# Altium integrated library Infineon_Power_Supply_Voltage_Regulator.IntLib: 346 symbols (part 15 of 16)
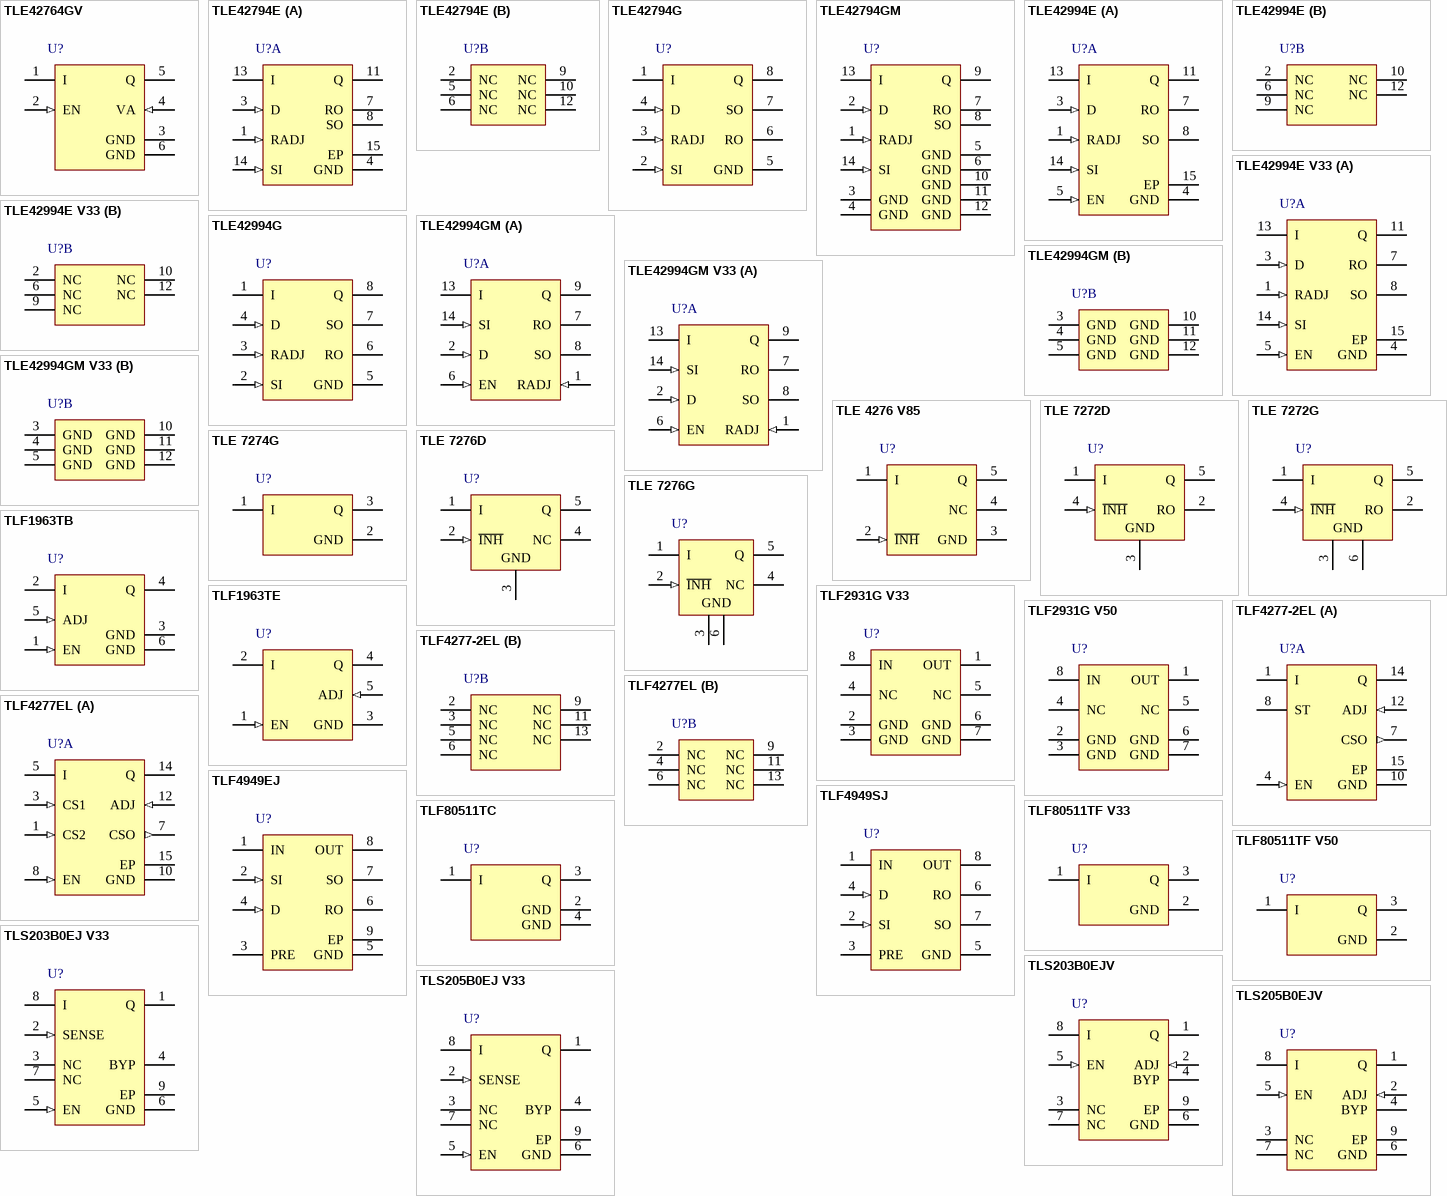
[diagram p23: symbols TLE42764GV to TLS205B0EJV]

## TLE42794E
designator U?
Low Drop Fixed Voltage Regulator, 5.5 to 45 V Supply, 5 V Output, -40 to 150 degC, PG-SSOP-14, Reel, Green; Manufacturer: Infineon; PartNumber: TLE42794E; Accuracy: 2 %; Dropout Voltage: 250 mV; Green: TRUE; Max. Output Current: 150 mA; Output Voltage: 5V; Regulator Type: single output; Typical Quiescent Current: 150 uA; DatasheetVersion: Rev. 1.1; PackageVersion: Oct-08; PackageReference: PG-SSOP-14; PackageDescription: 14-Pin Plastic (Green) Shrink Small Outline Package, 4.9 x 3.9 mm Body, 0.65 mm Pitch; Supplier 1: Mouser; Supplier Part Number 1: 726-TLE42794E; Supplier 2: Digi-Key; Supplier Part Number 2: TLE42794E-ND; Halogen-free: TRUE; Operating Range: 5.5 to 45 V; Packing: Reel; Mounting Technology: Surface Mount; ComponentLink1Description: Manufacturer URL; ComponentLink1URL: http://www.infineon.com/; ComponentLink2Description: Datasheet; ComponentLink2URL: http://www.infineon.com/dgdl/TLE42794_DS_11%5B1%5D.pdf?folderId=db3a30431ff988150120802bce1d257a&fileId=db3a30431ff9881501208032619b258d&location=en.Products.Automotive_ICs.Linear_Voltage_Regulators_for_Automotive-Applications.Linear_Voltage_Regulators_-_Selection_Table.DATASHEET.TLE42794_DS_11[1].pdf; ComponentLink3Description: Package Specification; ComponentLink3URL: http://www.infineon.com/dgdl/ILD1151-Data-Sheet-11-Infineon.pdf?folderId=db3a30431f848401011fcbf2ab4c04c4&fileId=db3a304330046413013031216f2b20e1&location=en.Products.LED_Drivers___Lighting_ICs.LED_Driver_for_Outdoor_Lighting___Indoor_Lighting.LED_Driver__Product_portfolio_and_Information.DATASHEET.ILD1151-Data-Sheet-11-Infineon.pdf
footprint INF-PG-SSOP-14_N (SOP, 14-Leads, Body 4.9x3.9mm, Pitch 0.65mm, Thermal Pad 3.2x2.75mm, IPC Medium Density)
footprint INF-PG-SSOP-14_L (SOP, 14-Leads, Body 4.9x3.9mm, Pitch 0.65mm, Thermal Pad 3.2x2.85mm, IPC High Density)
footprint INF-PG-SSOP-14_M (SOP, 14-Leads, Body 4.9x3.9mm, Pitch 0.65mm, Thermal Pad 3.2x2.55mm, IPC Low Density)
part A pins: 1 RADJ (in) "Reset Threshold Adjust connect an external voltage divider to adjust reset threshold; connect to GND for using internal threshold", 3 D (in) "Reset Delay Timing connect a ceramic capacitor to GND for adjusting the reset delay time; leave open if the reset function is not needed", 4 GND (power) "Ground connect all pins to PCB and heatsink area", 7 RO (oc) "Reset Output open collector output; external pull-up resistor required, respecting values given in Item 5.6.5; leave open if the reset function is not needed", 8 SO (oc) "Sense Output open collector output; external pull-up resistor required, respecting values given in Item 5.8.6; leave open if the sense comparator is not needed", 11 Q (power) "Output block to GND with a capacitor close to the IC terminals, respecting the values given for its capacitance CQ and ESR in the table “Functional Range” on Page 9", 13 I (power) "Input for compensating line influences, a capacitor to GND close to the IC terminals is recommended", 14 SI (in) "Sense Input  connect the voltage to be monitored; connect to Q if the sense comparator is not needed", 15 EP "Exposed pad"
part B pins: 2 NC "not connected leave open or connect to GND", 5 NC "not connected leave open or connect to GND", 6 NC "not connected leave open or connect to GND", 9 NC "not connected leave open or connect to GND", 10 NC "not connected leave open or connect to GND", 12 NC "not connected leave open or connect to GND"

## TLE42794G
designator U?
Low Drop Fixed Voltage Regulator, 5.5 to 45 V Supply, 5 V Output, -40 to 150 degC, PG-DSO-8-16, Reel, Green; Manufacturer: Infineon; PartNumber: TLE42794G; Accuracy: 2 %; Dropout Voltage: 250 mV; Green: TRUE; Max. Output Current: 500 mA; Output Voltage: 5V; Regulator Type: single output; Typical Quiescent Current: 150 uA; DatasheetVersion: Rev. 1.1; PackageVersion: Mar-07; PackageReference: PG-DSO-8-16; PackageDescription: 8-Pin Plastic (Green) Dual Small Outline Package, 4.9 x 3.9 mm Body, 1.27 mm Pitch; Supplier 1: Mouser; Supplier Part Number 1: 726-TLE42794G; Supplier 2: Digi-Key; Supplier Part Number 2: TLE42794GTR-ND; Supplier 3: Digi-Key; Supplier Part Number 3: TLE42794GCT-ND; Supplier 4: Digi-Key; Supplier Part Number 4: TLE42794GDKR-ND; Halogen-free: TRUE; Operating Range: 5.5 to 45 V; Packing: Reel; Mounting Technology: Surface Mount; ComponentLink1Description: Manufacturer URL; ComponentLink1URL: http://www.infineon.com/; ComponentLink2Description: Datasheet; ComponentLink2URL: http://www.infineon.com/dgdl/TLE42794_DS_11%5B1%5D.pdf?folderId=db3a30431ff988150120802bce1d257a&fileId=db3a30431ff9881501208032619b258d&location=en.Products.Automotive_ICs.Linear_Voltage_Regulators_for_Automotive-Applications.Linear_Voltage_Regulators_-_Selection_Table.DATASHEET.TLE42794_DS_11[1].pdf; ComponentLink3Description: Package Specification; ComponentLink3URL: http://www.infineon.com/dgdl/TLE7259-2GE_DS_rev12.pdf?folderId=db3a3043163797a6011666d32a0c0de1&fileId=db3a3043163797a6011666d4dbb80de2&location=en.Products.Automotive_ICs.Automotive_Transceivers.LIN_Transceivers.DATASHEET.TLE7259-2GE_DS_rev12.pdf
footprint INF-PG-DSO-8-16_N (SOP, 8-Leads, Body 4.9x3.9mm, Pitch 1.27mm, IPC Medium Density)
footprint INF-PG-DSO-8-16_L (SOP, 8-Leads, Body 4.9x3.9mm, Pitch 1.27mm, IPC High Density)
footprint INF-PG-DSO-8-16_M (SOP, 8-Leads, Body 4.9x3.9mm, Pitch 1.27mm, IPC Low Density)
pins: 1 I (power) "Input for compensating line influences, a capacitor to GND close to the IC terminals is  recommended", 2 SI (in) "Sense Input connect the voltage to be monitored; connect to Q if the sense comparator is not needed", 3 RADJ (in) "Reset Threshold Adjust connect an external voltage divider to adjust reset threshold; connect to GND for using internal threshold", 4 D (in) "Reset Delay Timing connect a ceramic capacitor to GND for adjusting the reset delay time; leave open if the reset function is not needed", 5 GND (power) "Ground", 6 RO (oc) "Reset Output open collector output; external pull-up resistor required, respecting values given in  Item 5.6.5; leave open if the reset function is not needed", 7 SO (oc) "Sense Output open collector output; external pull-up resistor required, respecting values given in  Item 5.8.6; leave open if the sense comparator is not needed", 8 Q (power) "Output block to GND with a capacitor close to the IC terminals, respecting the values given  for its capacitance C Q and ESR in "Functional Range" on Page 9"

## TLE42794GM
designator U?
Low Drop Fixed Voltage Regulator, 5.5 to 45 V Supply, 5 V Output, -40 to 150 degC, PG-DSO-14-30, Reel, Green; Manufacturer: Infineon; PartNumber: TLE42794GM; Accuracy: 2 %; Dropout Voltage: 250 mV; Green: TRUE; Max. Output Current: 500 mA; Output Voltage: 5V; Regulator Type: single output; Typical Quiescent Current: 150 uA; DatasheetVersion: Rev. 1.1; PackageVersion: Oct-07; PackageReference: PG-DSO-14-30; PackageDescription: 14-Pin Plastic (Green) Dual Small Outline Package, 8.65 x 3.9 mm Body, 1.27 mm Pitch; Supplier 1: Mouser; Supplier Part Number 1: 726-TLE42794GM; Supplier 2: Digi-Key; Supplier Part Number 2: TLE42794GMTR-ND; Supplier 3: Digi-Key; Supplier Part Number 3: TLE42794GMCT-ND; Supplier 4: Digi-Key; Supplier Part Number 4: TLE42794GMDKR-ND; Halogen-free: TRUE; Operating Range: 5.5 to 45 V; Packing: Reel; Mounting Technology: Surface Mount; ComponentLink1Description: Manufacturer URL; ComponentLink1URL: http://www.infineon.com/; ComponentLink2Description: Datasheet; ComponentLink2URL: http://www.infineon.com/dgdl/TLE42794_DS_11%5B1%5D.pdf?folderId=db3a30431ff988150120802bce1d257a&fileId=db3a30431ff9881501208032619b258d&location=en.Products.Automotive_ICs.Linear_Voltage_Regulators_for_Automotive-Applications.Linear_Voltage_Regulators_-_Selection_Table.DATASHEET.TLE42794_DS_11[1].pdf; ComponentLink3Description: Package Specification; ComponentLink3URL: http://www.infineon.com/dgdl/TLE4299v33_DS_11%5B1%5D.pdf?folderId=db3a304318f3fe290118f5a433570040&fileId=db3a30431c48a312011c55c733b0022b&sId=db3a30433d68e984013d8b6475e4267b
footprint INF-PG-DSO-14-30_N (SOP, 14-Leads, Body 8.65x3.9mm, Pitch 1.27mm, IPC Medium Density)
footprint INF-PG-DSO-14-30_L (SOP, 14-Leads, Body 8.65x3.9mm, Pitch 1.27mm, IPC High Density)
footprint INF-PG-DSO-14-30_M (SOP, 14-Leads, Body 8.65x3.9mm, Pitch 1.27mm, IPC Low Density)
pins: 1 RADJ (in) "Reset Threshold Adjust connect an external voltage divider to adjust reset threshold; connect to GND for using internal threshold", 2 D (in) "Reset Delay Timing connect a ceramic capacitor to GND for adjusting the reset delay time; leave open if the reset function is not needed", 3 GND (power) "Ground connect all pins to PCB and heatsink area", 4 GND (power) "Ground connect all pins to PCB and heatsink area", 5 GND (power) "Ground connect all pins to PCB and heatsink area", 6 GND (power) "Ground connect all pins to PCB and heatsink area", 7 RO (oc) "Reset Output open collector output; external pull-up resistor required, respecting values given in  Item 5.6.5; leave open if the reset function is not needed", 8 SO (oc) "Sense Output open collector output; external pull-up resistor required, respecting values given in Item 5.8.6; leave open if the sense comparator is not needed", 9 Q (power) "Output block to GND with a capacitor close to the IC terminals, respecting the values given for its capacitance CQ and ESR in the table “Functional Range”on Page 9", 10 GND (power) "Ground connect all pins to PCB and heatsink area", 11 GND (power) "Ground connect all pins to PCB and heatsink area", 12 GND (power) "Ground connect all pins to PCB and heatsink area", 13 I (power) "Input for compensating line influences, a capacitor to GND close to the IC terminals is recommended", 14 SI (in) "Sense Input connect the voltage to be monitored; connect to Q if the sense comparator is not needed"

## TLE42994E
designator U?
Low Drop Fixed Voltage Regulator, 5.5 to 45 V Supply, 5 V Output, -40 to 150 degC, PG-SSOP-14, Reel, Green; Manufacturer: Infineon; PartNumber: TLE42994E; Accuracy: 2 %; Dropout Voltage: 220 mV; Green: TRUE; Max. Output Current: 150 mA; Output Voltage: 5V; Regulator Type: single output; Typical Quiescent Current: 65 uA; DatasheetVersion: Rev. 1.1; PackageVersion: Oct-08; PackageReference: PG-SSOP-14; PackageDescription: 14-Pin Plastic (Green) Shrink Small Outline Package, 4.9 x 3.9 mm Body, 0.65 mm Pitch; Supplier 1: Mouser; Supplier Part Number 1: 726-TLE42994E; Supplier 2: Digi-Key; Supplier Part Number 2: TLE42994E-ND; Halogen-free: TRUE; Operating Range: 5.5 to 45 V; Packing: Reel; Mounting Technology: Surface Mount; ComponentLink1Description: Manufacturer URL; ComponentLink1URL: http://www.infineon.com/; ComponentLink2Description: Datasheet; ComponentLink2URL: http://www.infineon.com/dgdl/TLE42994_DS_11.pdf?folderId=db3a304314dca3890115039cf70d0bf0&fileId=db3a30431f848401011fb758a96b590d&location=en.Products.Automotive_ICs.Linear_Voltage_Regulators_for_Automotive-Applications.Linear_Voltage_Regulators_-_Selection_Table.DATASHEET.TLE42994_DS_11.pdf; ComponentLink3Description: Package Specification; ComponentLink3URL: http://www.infineon.com/dgdl/ILD1151-Data-Sheet-11-Infineon.pdf?folderId=db3a30431f848401011fcbf2ab4c04c4&fileId=db3a304330046413013031216f2b20e1&location=en.Products.LED_Drivers___Lighting_ICs.LED_Driver_for_Outdoor_Lighting___Indoor_Lighting.LED_Driver__Product_portfolio_and_Information.DATASHEET.ILD1151-Data-Sheet-11-Infineon.pdf
footprint INF-PG-SSOP-14_N (SOP, 14-Leads, Body 4.9x3.9mm, Pitch 0.65mm, Thermal Pad 3.2x2.75mm, IPC Medium Density)
footprint INF-PG-SSOP-14_L (SOP, 14-Leads, Body 4.9x3.9mm, Pitch 0.65mm, Thermal Pad 3.2x2.85mm, IPC High Density)
footprint INF-PG-SSOP-14_M (SOP, 14-Leads, Body 4.9x3.9mm, Pitch 0.65mm, Thermal Pad 3.2x2.55mm, IPC Low Density)
part A pins: 1 RADJ (in) "Reset Threshold Adjust connect an external voltage divider to adjust reset threshold; connect to GND for using internal threshold", 3 D (in) "Reset Delay. Connect a ceramic capacitor to GND for reset delay time adjustment; Leave open, if the reset function is not needed.", 4 GND (power), 5 EN (in) "Enable high signal enables the regulator; low signal disables the regulator; connect to I if the Enable function is not needed", 7 RO (oc) "Reset Output open collector output; Leave open if the reset function is not needed", 8 SO (oc) "Sense Output open collector output; Leave open if the sense comparator is not needed", 11 Q (power) "Output. Connect to GND with a capacitor close to the IC terminals, respecting the values given for its capacitance CQ and ESR.", 13 I (power) "Input for compensating line influences, a capacitor to GND close to the IC terminals is recommended", 14 SI (in) "Sense Input. Connect to Q if the sense comparator is not needed", 15 EP (power) "Exposed Pad attach the exposed pad on package bottom to the heatsink area on circuit board; connect to GND"
part B pins: 2 NC, 6 NC, 9 NC, 10 NC, 12 NC

## TLE42994E V33
designator U?
Low Drop Fixed Voltage Regulator, 4.4 to 45 V Supply, 3.3 V Output, -40 to 150 degC, PG-SSOP-14, Reel, Green; Manufacturer: Infineon; PartNumber: TLE42994E V33; Accuracy: 2 %; Green: TRUE; Max. Output Current: 150 mA; Output Voltage: 3.3V; Regulator Type: single output; Typical Quiescent Current: 65 uA; DatasheetVersion: Rev. 1.01; PackageVersion: Oct-08; PackageReference: PG-SSOP-14; PackageDescription: 14-Pin Plastic (Green) Shrink Small Outline Package, 4.9 x 3.9 mm Body, 0.65 mm Pitch; Supplier 1: Mouser; Supplier Part Number 1: 726-TLE42994EV33; Supplier 2: Digi-Key; Supplier Part Number 2: TLE42994E V33TR-ND; Supplier 3: Digi-Key; Supplier Part Number 3: TLE42994E V33CT-ND; Supplier 4: Digi-Key; Supplier Part Number 4: TLE42994E V33DKR-ND; Halogen-free: TRUE; Operating Range: 4.4 to 45 V; Packing: Reel; Mounting Technology: Surface Mount; ComponentLink1Description: Manufacturer URL; ComponentLink1URL: http://www.infineon.com/; ComponentLink2Description: Datasheet; ComponentLink2URL: http://www.infineon.com/dgdl/Voltage-Regulator-TLE42994V33-Data-Sheet-V10-Infineon.pdf?folderId=db3a304314dca3890115039cf70d0bf0&fileId=db3a30432e779412012e99e675c10ae4&location=en.Products.Automotive_ICs.Linear_Voltage_Regulators_for_Automotive-Applications.Linear_Voltage_Regulators_-_Selection_Table.DATASHEET.Voltage-Regulator-TLE42994V33-Data-Sheet-V10-Infineon.pdf; ComponentLink3Description: Package Specification; ComponentLink3URL: http://www.infineon.com/dgdl/ILD1151-Data-Sheet-11-Infineon.pdf?folderId=db3a30431f848401011fcbf2ab4c04c4&fileId=db3a304330046413013031216f2b20e1&location=en.Products.LED_Drivers___Lighting_ICs.LED_Driver_for_Outdoor_Lighting___Indoor_Lighting.LED_Driver__Product_portfolio_and_Information.DATASHEET.ILD1151-Data-Sheet-11-Infineon.pdf
footprint INF-PG-SSOP-14_N (SOP, 14-Leads, Body 4.9x3.9mm, Pitch 0.65mm, Thermal Pad 3.2x2.75mm, IPC Medium Density)
footprint INF-PG-SSOP-14_L (SOP, 14-Leads, Body 4.9x3.9mm, Pitch 0.65mm, Thermal Pad 3.2x2.85mm, IPC High Density)
footprint INF-PG-SSOP-14_M (SOP, 14-Leads, Body 4.9x3.9mm, Pitch 0.65mm, Thermal Pad 3.2x2.55mm, IPC Low Density)
part A pins: 1 RADJ (in) "Reset Threshold Adjust connect an external voltage divider to adjust reset threshold; connect to GND for using internal threshold", 3 D (in) "Reset Delay. Connect a ceramic capacitor to GND for reset delay time adjustment; Leave open, if the reset function is not needed.", 4 GND (power), 5 EN (in) "Enable high signal enables the regulator; low signal disables the regulator; connect to I if the Enable function is not needed", 7 RO (oc) "Reset Output open collector output; Leave open if the reset function is not needed", 8 SO (oc) "Sense Output open collector output; Leave open if the sense comparator is not needed", 11 Q (power) "Output. Connect to GND with a capacitor close to the IC terminals, respecting the values given for its capacitance CQ and ESR.", 13 I (power) "Input for compensating line influences, a capacitor to GND close to the IC terminals is recommended", 14 SI (in) "Sense Input. Connect to Q if the sense comparator is not needed", 15 EP (power) "Exposed Pad attach the exposed pad on package bottom to the heatsink area on circuit board; connect to GND"
part B pins: 2 NC, 6 NC, 9 NC, 10 NC, 12 NC

## TLE42994G
designator U?
Low Drop Fixed Voltage Regulator, 5.5 to 45 V Supply, 5 V Output, -40 to 150 degC, PG-DSO-8-16, Reel, Green; Manufacturer: Infineon; PartNumber: TLE42994G; Accuracy: 2 %; Dropout Voltage: 220 mV; Green: TRUE; Max. Output Current: 500 mA; Output Voltage: 5 V; Regulator Type: single output; Typical Quiescent Current: 65 uA; DatasheetVersion: Rev. 1.1; PackageVersion: Mar-07; PackageReference: PG-DSO-8-16; PackageDescription: 8-Pin Plastic (Green) Dual Small Outline Package, 4.9 x 3.9 mm Body, 1.27 mm Pitch; Supplier 1: Mouser; Supplier Part Number 1: 726-TLE42994G; Supplier 2: Digi-Key; Supplier Part Number 2: TLE42994G-ND; Halogen-free: TRUE; Operating Range: 5.5 to 45 V; Packing: Reel; Mounting Technology: Surface Mount; ComponentLink1Description: Manufacturer URL; ComponentLink1URL: http://www.infineon.com/; ComponentLink2Description: Datasheet; ComponentLink2URL: http://www.infineon.com/dgdl/TLE42994_DS_11.pdf?folderId=db3a304314dca3890115039cf70d0bf0&fileId=db3a30431f848401011fb758a96b590d&location=en.Products.Automotive_ICs.Linear_Voltage_Regulators_for_Automotive-Applications.Linear_Voltage_Regulators_-_Selection_Table.DATASHEET.TLE42994_DS_11.pdf; ComponentLink3Description: Package Specification; ComponentLink3URL: http://www.infineon.com/dgdl/TLE7259-2GE_DS_rev12.pdf?folderId=db3a3043163797a6011666d32a0c0de1&fileId=db3a3043163797a6011666d4dbb80de2&location=en.Products.Automotive_ICs.Automotive_Transceivers.LIN_Transceivers.DATASHEET.TLE7259-2GE_DS_rev12.pdf
footprint INF-PG-DSO-8-16_N (SOP, 8-Leads, Body 4.9x3.9mm, Pitch 1.27mm, IPC Medium Density)
footprint INF-PG-DSO-8-16_L (SOP, 8-Leads, Body 4.9x3.9mm, Pitch 1.27mm, IPC High Density)
footprint INF-PG-DSO-8-16_M (SOP, 8-Leads, Body 4.9x3.9mm, Pitch 1.27mm, IPC Low Density)
pins: 1 I (power) "Input for compensating line influences, a capacitor to GND close to the IC terminals is  recommended", 2 SI (in) "Sense Input connect the voltage to be monitored; connect to Q if the sense comparator is not needed", 3 RADJ (in) "Reset Threshold Adjust connect an external voltage divider to adjust reset threshold; connect to GND for using internal threshold", 4 D (in) "Reset Delay Timing connect a ceramic capacitor to GND for adjusting the reset delay time; leave open if the reset function is not needed", 5 GND (power) "Ground", 6 RO (oc) "Reset Output open collector output; external pull-up resistor required, respecting values given in  Item 5.6.5; leave open if the reset function is not needed", 7 SO (oc) "Sense Output open collector output; external pull-up resistor required, respecting values given in  Item 5.8.6; leave open if the sense comparator is not needed", 8 Q (power) "Output block to GND with a capacitor close to the IC terminals, respecting the values given  for its capacitance C Q and ESR in "Functional Range" on Page 9"

## TLE42994GM
designator U?
Low Drop Fixed Voltage Regulator, 5.5 to 45 V Supply, 5 V Output, -40 to 150 degC, PG-DSO-14-37, Reel, Green; Manufacturer: Infineon; PartNumber: TLE42994GM; Accuracy: 2 %; Dropout Voltage: 220 mV; Green: TRUE; Max. Output Current: 500 mA; Output Voltage: 5 V; Regulator Type: single output; Typical Quiescent Current: 65 uA; DatasheetVersion: Rev. 1.1; PackageVersion: Sep-07; PackageReference: PG-DSO-14-37; PackageDescription: 14-Pin Plastic (Green) Dual Small Outline Package, 8.65 x 3.9 mm Body, 1.27 mm Pitch; Supplier 1: Mouser; Supplier Part Number 1: 726-TLE42994GM; Supplier 2: Digi-Key; Supplier Part Number 2: TLE42994GMTR-ND; Supplier 3: Digi-Key; Supplier Part Number 3: TLE42994GMCT-ND; Supplier 4: Digi-Key; Supplier Part Number 4: TLE42994GMDKR-ND; Halogen-free: TRUE; Operating Range: 5.5 to 45 V; Packing: Reel; Mounting Technology: Surface Mount; ComponentLink1Description: Manufacturer URL; ComponentLink1URL: http://www.infineon.com/; ComponentLink2Description: Datasheet; ComponentLink2URL: http://www.infineon.com/dgdl/TLE42994_DS_11.pdf?folderId=db3a304314dca3890115039cf70d0bf0&fileId=db3a30431f848401011fb758a96b590d&location=en.Products.Automotive_ICs.Linear_Voltage_Regulators_for_Automotive-Applications.Linear_Voltage_Regulators_-_Selection_Table.DATASHEET.TLE42994_DS_11.pdf; ComponentLink3Description: Package Specification; ComponentLink3URL: http://www.infineon.com/dgdl/BTS723GWDS11_2007_09_25.pdf?folderId=db3a304314dca389011537739e37155f&fileId=db3a304331c8f8560131dbfec21b0da9&sId=db3a30443d67b5ca013d854df2f133e5
footprint INF-PG-DSO-14-37_N (SOP, 14-Leads, Body 8.65x3.9mm, Pitch 1.27mm, IPC Medium Density)
footprint INF-PG-DSO-14-37_L (SOP, 14-Leads, Body 8.65x3.9mm, Pitch 1.27mm, IPC High Density)
footprint INF-PG-DSO-14-37_M (SOP, 14-Leads, Body 8.65x3.9mm, Pitch 1.27mm, IPC Low Density)
part A pins: 1 RADJ (in) "Reset Threshold Adjust connect an external voltage divider to adjust reset threshold; connect to GND for using internal threshold", 2 D (in) "Reset Delay Timing connect a ceramic capacitor to GND for adjusting the reset delay time; leave open if the reset function is not needed", 6 EN (in) "Enable high signal enables the regulator; low signal disables the regulator; connect to I if the Enable function is not needed", 7 RO (oc) "Reset Output open collector output; external pull-up resistor required, respecting values given in Item 5.6.5; leave open if the reset function is not needed", 8 SO (oc) "Sense Output open collector output; external pull-up resistor required, respecting values given in Item 5.8.6; leave open if the sense comparator is not needed", 9 Q (power) "Output block to GND with a capacitor close to the IC terminals, respecting the values given for its capacitance CQ and ESR in the table “Functional Range” on Page 9", 13 I (power) "Input for compensating line influences, a capacitor to GND close to the IC terminals is recommended", 14 SI (in) "Sense Input  connect the voltage to be monitored; connect to Q if the sense comparator is not needed"
part B pins: 3 GND (power) "Ground connect all pins to PCB and heatsink area", 4 GND (power) "Ground connect all pins to PCB and heatsink area", 5 GND (power) "Ground connect all pins to PCB and heatsink area", 10 GND (power) "Ground connect all pins to PCB and heatsink area", 11 GND (power) "Ground connect all pins to PCB and heatsink area", 12 GND (power) "Ground connect all pins to PCB and heatsink area"

## TLE42994GM V33
designator U?
Low Drop Fixed Voltage Regulator, 4.4 to 45 V Supply, 3.3 V Output, -40 to 150 degC, PG-DSO-14-37, Reel, Green; Manufacturer: Infineon; PartNumber: TLE42994GM V33; Accuracy: 2 %; Green: TRUE; Max. Output Current: 150 mA; Output Voltage: 3.3V; Regulator Type: single output; Typical Quiescent Current: 65 uA; DatasheetVersion: Rev. 1.01; PackageVersion: Sep-07; PackageReference: PG-DSO-14-37; PackageDescription: 14-Pin Plastic (Green) Dual Small Outline Package, 8.65 x 3.9 mm Body, 1.27 mm Pitch; Supplier 1: Mouser; Supplier Part Number 1: 726-TLE42994GMV33; Supplier 2: Digi-Key; Supplier Part Number 2: TLE42994GM V33-ND; Halogen-free: TRUE; Operating Range: 4.4 to 45 V; Packing: Reel; Mounting Technology: Surface Mount; ComponentLink1Description: Manufacturer URL; ComponentLink1URL: http://www.infineon.com/; ComponentLink2Description: Datasheet; ComponentLink2URL: http://www.infineon.com/dgdl/Voltage-Regulator-TLE42994V33-Data-Sheet-V10-Infineon.pdf?folderId=db3a304314dca3890115039cf70d0bf0&fileId=db3a30432e779412012e99e675c10ae4&location=en.Products.Automotive_ICs.Linear_Voltage_Regulators_for_Automotive-Applications.Linear_Voltage_Regulators_-_Selection_Table.DATASHEET.Voltage-Regulator-TLE42994V33-Data-Sheet-V10-Infineon.pdf; ComponentLink3Description: Package Specification; ComponentLink3URL: http://www.infineon.com/dgdl/BTS723GWDS11_2007_09_25.pdf?folderId=db3a304314dca389011537739e37155f&fileId=db3a304331c8f8560131dbfec21b0da9&sId=db3a30443d67b5ca013d854df2f133e5
footprint INF-PG-DSO-14-37_N (SOP, 14-Leads, Body 8.65x3.9mm, Pitch 1.27mm, IPC Medium Density)
footprint INF-PG-DSO-14-37_L (SOP, 14-Leads, Body 8.65x3.9mm, Pitch 1.27mm, IPC High Density)
footprint INF-PG-DSO-14-37_M (SOP, 14-Leads, Body 8.65x3.9mm, Pitch 1.27mm, IPC Low Density)
part A pins: 1 RADJ (in) "Reset Threshold Adjust connect an external voltage divider to adjust reset threshold; connect to GND for using internal threshold", 2 D (in) "Reset Delay Timing connect a ceramic capacitor to GND for adjusting the reset delay time; leave open if the reset function is not needed", 6 EN (in) "Enable high signal enables the regulator; low signal disables the regulator; connect to I if the Enable function is not needed", 7 RO (oc) "Reset Output open collector output; external pull-up resistor required, respecting values given in Item 5.6.5; leave open if the reset function is not needed", 8 SO (oc) "Sense Output open collector output; external pull-up resistor required, respecting values given in Item 5.8.6; leave open if the sense comparator is not needed", 9 Q (power) "Output block to GND with a capacitor close to the IC terminals, respecting the values given for its capacitance CQ and ESR in the table “Functional Range” on Page 9", 13 I (power) "Input for compensating line influences, a capacitor to GND close to the IC terminals is recommended", 14 SI (in) "Sense Input  connect the voltage to be monitored; connect to Q if the sense comparator is not needed"
part B pins: 3 GND (power) "Ground connect all pins to PCB and heatsink area", 4 GND (power) "Ground connect all pins to PCB and heatsink area", 5 GND (power) "Ground connect all pins to PCB and heatsink area", 10 GND (power) "Ground connect all pins to PCB and heatsink area", 11 GND (power) "Ground connect all pins to PCB and heatsink area", 12 GND (power) "Ground connect all pins to PCB and heatsink area"

## TLE 4276 V85
designator U?
Low Drop Voltage Regulator, -40 to 150 degC, PG-TO220-5-11, Tube, Green; Manufacturer: Infineon; PartNumber: TLE 4276 V85; Green: TRUE; DatasheetVersion: Rev. 2.7; PackageVersion: Jan-10; PackageReference: PG-TO220-5-11; PackageDescription: 5-Pin Plastic (Green) Transistor Single Outline Package, 10 x 9.25 mm, 1.7 mm Pitch; Halogen-free: TRUE; Packing: Tube; Mounting Technology: Through Hole; ComponentLink1Description: Manufacturer URL; ComponentLink1URL: http://www.infineon.com/; ComponentLink2Description: Datasheet; ComponentLink2URL: http://www.infineon.com/dgdl/TLE4276_DS_27.pdf?folderId=db3a304318f3fe290118f5a433570040&fileId=db3a30431c48a312011c5093e2fe003f&location=en.Products.Automotive_ICs.Linear_Voltage_Regulators_for_Automotive-Applications.Linear_Voltage_Regulators_-_Selection_Table.DATASHEET.TLE4276_DS_27.pdf; ComponentLink3Description: Package Specification; ComponentLink3URL: http://www.infineon.com/dgdl/TLE4276_DS_27.pdf?folderId=db3a304318f3fe290118f5a433570040&fileId=db3a30431c48a312011c5093e2fe003f&sId=db3a30433f2e70c5013f3f007fea3cf1
footprint INF-PG-TO220-5-11 (FM, 5-Leads, Body 10x4.4mm, Pitch 1.7mm)
pins: 1 I (power) "Input; block to ground directly at the IC with a ceramic capacitor.", 2 ~{INH} (in) "Inhibit; low-active input.", 3 GND (power) "Ground", 4 NC "Not connected for V50, V85, V10", 5 Q (power) "Output; block to GND with a = 22 uF capacitor, ESR = 3 ohm at 10 kHz"

## TLE 7272D
designator U?
5-V Low Drop Voltage Regulator, -40 to 150 degC, P-TO252-5-11, Reel; Manufacturer: Infineon; PartNumber: TLE 7272D; Green: FALSE; IQ (max): 800 mA; Iq (typ): 20 uA; VQ (max): 5.1 V; DatasheetVersion: Rev. 1.1; PackageVersion: Jul-05; PackageReference: P-TO252-5-1; PackageDescription: 5-Pin Plastic (Green) Transistor Single Outline Package, 6.5 x 6.12 mm Body, 1.14 mm Pitch; Halogen-free: FALSE; Packing: Reel; Mounting Technology: Surface Mount; ComponentLink1Description: Manufacturer URL; ComponentLink1URL: http://www.infineon.com/; ComponentLink2Description: Datasheet; ComponentLink2URL: http://www.infineon.com/dgdl/tle727220V1_1.pdf?folderId=db3a304412b407950112b408e8c90004&fileId=db3a304412b407950112b436bdcb66c0; ComponentLink3Description: Package Specification; ComponentLink3URL: http://www.infineon.com/dgdl/tle727220V1_1.pdf?folderId=db3a304412b407950112b408e8c90004&fileId=db3a304412b407950112b436bdcb66c0&sId=db3a30433f2e70c5013f41a0fd054e0b
footprint INF-P-TO252-5-1_N (DPAK, 5-Leads, Body 6.5x6.12mm, Pitch 1.14mm, IPC Medium Density)
footprint INF-P-TO252-5-1_L (DPAK, 5-Leads, Body 6.5x6.12mm, Pitch 1.14mm, IPC High Density)
footprint INF-P-TO252-5-1_M (DPAK, 5-Leads, Body 6.5x6.12mm, Pitch 1.14mm, IPC Low Density)
pins: 1 I (power) "Input; block to ground directly at the IC with a ceramic capacitor", 2 RO (oc) "Reset Output; Open Collector Output with integrated pull-up resistor of typically 30k ohm. Optional external pull-up resistor of >= 10 k ohm to pin Q.", 3 GND (power) "Ground; Pin 3 internally connected to heatsink.", 4 ~{INH} (in) "Inhibit Input; low level disables the IC. Integrated pull-down resistor.", 5 Q (power) "Output; block to ground with a ceramic capacitor, C >= 470 nF."

## TLE 7272G
designator U?
5-V Low Drop Voltage Regulator, -40 to 150 degC, P-TO263-5-1, Reel; Manufacturer: Infineon; PartNumber: TLE 7272G; Green: FALSE; IQ (max): 800 mA; Iq (typ): 20 uA; VQ (max): 5.1 V; DatasheetVersion: Rev. 1.1; PackageVersion: Nov-10; PackageReference: P-TO263-5-1; PackageDescription: 5-Pin Plastic Transistor Single Outline Package, 10 x 9.25 mm Body, 1.7 mm Pitch; Halogen-free: FALSE; Packing: Reel; Mounting Technology: Surface Mount; ComponentLink1Description: Manufacturer URL; ComponentLink1URL: http://www.infineon.com/; ComponentLink2Description: Datasheet; ComponentLink2URL: http://www.infineon.com/dgdl/tle727220V1_1.pdf?folderId=db3a304412b407950112b408e8c90004&fileId=db3a304412b407950112b436bdcb66c0; ComponentLink3Description: Package Specification; ComponentLink3URL: http://www.infineon.com/dgdl/TLE7276-Data+Sheet-+v1_11.pdf?folderId=db3a304412b407950112b408e8c90004&fileId=db3a304412b407950112b436c53f66c8&sId=db3a30433f2e70c5013f41a2f66c4e0d
footprint INF-P-TO263-5-1_N (DPAK, 5-Leads, Body 10x9.25mm, Pitch 1.7mm, IPC Medium Density)
footprint INF-P-TO263-5-1_L (DPAK, 5-Leads, Body 10x9.25mm, Pitch 1.7mm, IPC High Density)
footprint INF-P-TO263-5-1_M (DPAK, 5-Leads, Body 10x9.25mm, Pitch 1.7mm, IPC Low Density)
pins: 1 I (power) "Input; block to ground directly at the IC with a ceramic capacitor", 2 RO (oc) "Reset Output; Open Collector Output with integrated pull-up resistor of typically 30k ohm. Optional external pull-up resistor of >= 10 k ohm to pin Q.", 3 GND (power) "Ground; Pin 3 internally connected to heatsink.", 4 ~{INH} (in) "Inhibit Input; low level disables the IC. Integrated pull-down resistor.", 5 Q (power) "Output; block to ground with a ceramic capacitor, C >= 470 nF.", 6 GND (power) "Ground; Pin 3 internally connected to heatsink."

## TLE 7274G
designator U?
5 V Low Drop Voltage Regluator, 5.5 to 42 V Supply, -40 to 150 degC, P-TO263-3-1, Reel; Manufacturer: Infineon; PartNumber: TLE 7274G; Accuracy: 2 %; Dropout Voltage: 250 mV; Max. Output Current: 300 mA; Output Voltage: 5V; Regulator Type: single output; Typical Quiescent Current: 20 uA; DatasheetVersion: Rev. 1.1; PackageVersion: Jul-05; PackageReference: P-TO263-3-1; PackageDescription: 3-Pin Plastic Transistor Single Outline Package, 10 x 9.25 mm Body, 2.54 mm Pitch; Operating Range: 5.5 to 42 V; Packing: Reel; Mounting Technology: Surface Mount; ComponentLink1Description: Manufacturer URL; ComponentLink1URL: http://www.infineon.com/; ComponentLink2Description: Datasheet; ComponentLink2URL: http://www.infineon.com/dgdl/tle727420V1_1.pdf?folderId=db3a304412b407950112b408e8c90004&fileId=db3a304412b407950112b436c18e66c4&location=en.Products.Automotive_ICs.Linear_Voltage_Regulators_for_Automotive-Applications.Linear_Voltage_Regulators_-_Selection_Table.DATASHEET.tle727420V1_1.pdf; ComponentLink3Description: Package Specification; ComponentLink3URL: http://www.infineon.com/dgdl/tle727420V1_1.pdf?folderId=db3a304412b407950112b408e8c90004&fileId=db3a304412b407950112b436c18e66c4&location=en.Products.Automotive_ICs.Linear_Voltage_Regulators_for_Automotive-Applications.Linear_Voltage_Regulators_-_Selection_Table.DATASHEET.tle727420V1_1.pdf
footprint INF-P-TO263-3-1_N (DPAK, 3-Leads, Body 10x9.25mm, Pitch 2.54mm, IPC Medium Density)
footprint INF-P-TO263-3-1_L (DPAK, 3-Leads, Body 10x9.25mm, Pitch 2.54mm, IPC High Density)
footprint INF-P-TO263-3-1_M (DPAK, 3-Leads, Body 10x9.25mm, Pitch 2.54mm, IPC Low Density)
pins: 1 I (power) "Input; block to ground directly at the IC with a ceramic capacitor.", 2 GND (power) "Ground; Connected to the heatsink of the package.", 3 Q (power) "Output; block to ground with a ceramic capacitor."

## TLE 7276D
designator U?
Low Drop Linear Voltage Regulator 5 V Fixed Output Voltage, -40 to 150 degC, P-TO252-5-11, Reel; Manufacturer: Infineon; PartNumber: TLE 7276D; Green: FALSE; IQ (max): 800 mA; Iq (typ): 20 uA; VQ (max): 5.1 V; DatasheetVersion: Rev. 1.11; PackageVersion: Jul-05; PackageReference: P-TO252-5-1; PackageDescription: 5-Pin Plastic (Green) Transistor Single Outline Package, 6.5 x 6.12 mm Body, 1.14 mm Pitch; Halogen-free: FALSE; Packing: Reel; Mounting Technology: Surface Mount; ComponentLink1Description: Manufacturer URL; ComponentLink1URL: http://www.infineon.com/; ComponentLink2Description: Datasheet; ComponentLink2URL: http://www.infineon.com/dgdl/TLE7276-Data+Sheet-+v1_11.pdf?folderId=db3a304412b407950112b408e8c90004&fileId=db3a304412b407950112b436c53f66c8; ComponentLink3Description: Package Specification; ComponentLink3URL: http://www.infineon.com/dgdl/tle727220V1_1.pdf?folderId=db3a304412b407950112b408e8c90004&fileId=db3a304412b407950112b436bdcb66c0&sId=db3a30433f2e70c5013f41a0fd054e0b
footprint INF-P-TO252-5-1_N (DPAK, 5-Leads, Body 6.5x6.12mm, Pitch 1.14mm, IPC Medium Density)
footprint INF-P-TO252-5-1_L (DPAK, 5-Leads, Body 6.5x6.12mm, Pitch 1.14mm, IPC High Density)
footprint INF-P-TO252-5-1_M (DPAK, 5-Leads, Body 6.5x6.12mm, Pitch 1.14mm, IPC Low Density)
pins: 1 I (power) "Input; block to ground directly at the IC with a ceramic capacitor", 2 ~{INH} (in) "Inhibit Input; low level disables the IC. Integrated pull-down resistor", 3 GND (power) "Ground; Pin 3 internally connected to heatsink.", 4 NC "Not connected", 5 Q (power) "Output; block to ground with a ceramic capacitor, C >=470 nF."

## TLE 7276G
designator U?
Low Drop Linear Voltage Regulator 5 V Fixed Output Voltage, -40 to 150 degC, P-TO263-5-1, Reel; Manufacturer: Infineon; PartNumber: TLE 7276G; Green: FALSE; IQ (max): 800 mA; Iq (typ): 20 uA; VQ (max): 5.1 V; DatasheetVersion: Rev. 1.11; PackageVersion: Nov-10; PackageReference: P-TO263-5-1; PackageDescription: 5-Pin Plastic Transistor Single Outline Package, 10 x 9.25 mm Body, 1.7 mm Pitch; Halogen-free: FALSE; Packing: Reel; Mounting Technology: Surface Mount; ComponentLink1Description: Manufacturer URL; ComponentLink1URL: http://www.infineon.com/; ComponentLink2Description: Datasheet; ComponentLink2URL: http://www.infineon.com/dgdl/TLE7276-Data+Sheet-+v1_11.pdf?folderId=db3a304412b407950112b408e8c90004&fileId=db3a304412b407950112b436c53f66c8; ComponentLink3Description: Package Specification; ComponentLink3URL: http://www.infineon.com/dgdl/TLE7276-Data+Sheet-+v1_11.pdf?folderId=db3a304412b407950112b408e8c90004&fileId=db3a304412b407950112b436c53f66c8&sId=db3a30433f2e70c5013f41a2f66c4e0d
footprint INF-P-TO263-5-1_N (DPAK, 5-Leads, Body 10x9.25mm, Pitch 1.7mm, IPC Medium Density)
footprint INF-P-TO263-5-1_L (DPAK, 5-Leads, Body 10x9.25mm, Pitch 1.7mm, IPC High Density)
footprint INF-P-TO263-5-1_M (DPAK, 5-Leads, Body 10x9.25mm, Pitch 1.7mm, IPC Low Density)
pins: 1 I (power) "Input; block to ground directly at the IC with a ceramic capacitor", 2 ~{INH} (in) "Inhibit Input; low level disables the IC. Integrated pull-down resistor", 3 GND (power) "Ground; internally connected to heat sink", 4 NC "Not connected", 5 Q (power) "Output; block to ground with a ceramic capacitor, C >=470 nF.", 6 GND (power) "Ground; internally connected to heat sink"

## TLF1963TB
designator U?
Low Drop Linear Voltage Post Regulator, 2.5 to 20 V Supply, Adjustable Output, -40 to 150 degC, PG-TO263-5-1, Reel, Green; Manufacturer: Infineon; PartNumber: TLF1963TB; Accuracy: 3 %; Dropout Voltage: 340 mV; Green: TRUE; Max. Output Current: 1.5 A; Output Voltage: adj.; Regulator Type: single output; Typical Quiescent Current: 1.1 mA; DatasheetVersion: Rev. 1.0; PackageVersion: Sep-08; PackageReference: PG-TO263-5-1; PackageDescription: 5-Pin Plastic (Green) Transistor Single Outline Package, 10 x 9.25 mm Body, 1.7 mm Pitch; Halogen-free: TRUE; Operating Range: 2.5 to 20 V; Packing: Reel; Mounting Technology: Surface Mount; ComponentLink1Description: Manufacturer URL; ComponentLink1URL: http://www.infineon.com/; ComponentLink2Description: Datasheet; ComponentLink2URL: http://www.infineon.com/dgdl/TLF1963-Data-Sheet-10-Infineon.pdf?folderId=db3a30431ff988150120802bce1d257a&fileId=db3a30433afc7e3e013b45e177951318&location=en.Products.Automotive_ICs.Linear_Voltage_Regulators_for_Automotive-Applications.Linear_Voltage_Regulators_-_Selection_Table.DATASHEET.TLF1963-Data-Sheet-10-Infineon.pdf; ComponentLink3Description: Package Specification; ComponentLink3URL: http://www.infineon.com/dgdl/TLE4675_DS10.pdf?folderId=db3a30431ddc9372011e26863f92474e&fileId=db3a30431ff9881501201fa645654e52&sId=db3a30433d68e984013d8b6677a5267d
footprint INF-PG-TO263-5-1_N (DPAK, 5-Leads, Body 10x9.25mm, Pitch 1.7mm, IPC Medium Density)
footprint INF-PG-TO263-5-1_L (DPAK, 5-Leads, Body 10x9.25mm, Pitch 1.7mm, IPC High Density)
footprint INF-PG-TO263-5-1_M (DPAK, 5-Leads, Body 10x9.25mm, Pitch 1.7mm, IPC Low Density)
pins: 1 EN (in) "Enable; A low signal disables the IC. A high signal switches it on. Connect to the input I, if enable functionality is not required.", 2 I (power) "Input voltage; IC supply. For compensating line influences, a capacitor close to the IC pins is recommended.", 3 GND (power) "Ground", 4 Q (power) "Output voltage; Connect a capacitor between Q and GND close to the IC terminals, respecting the values given for its capacitance CQ and ESR given in the table “Functional Range” on Page 8", 5 ADJ (in) "Adjust Input; Connect an external voltage divider from Q to GND to determine the output voltage. By connecting the output pin Q directly to the adjust pin ADJ without resistors an ouput voltage equal to the reference voltage (See Datasheet)", 6 GND (power) "Ground"

## TLF1963TE
designator U?
Low Drop Linear Voltage Post Regulator, 2.5 to 20 V Supply, Adjustable Output, -40 to 150 degC, PG-TO252-5-11, Reel, Green; Manufacturer: Infineon; PartNumber: TLF1963TE; Accuracy: 3 %; Dropout Voltage: 340 mV; Green: TRUE; Max. Output Current: 1.5 A; Output Voltage: adj.; Regulator Type: single output; Typical Quiescent Current: 1.1 mA; DatasheetVersion: Rev. 1.0; PackageVersion: Nov-10; PackageReference: PG-TO252-5-11; PackageDescription: 5-Pin Plastic (Green) Transistor Single Outline Package, 6.5 x 6.12 mm Body, 1.14 mm Pitch; Halogen-free: TRUE; Operating Range: 2.5 to 20 V; Packing: Reel; Mounting Technology: Surface Mount; ComponentLink1Description: Manufacturer URL; ComponentLink1URL: http://www.infineon.com/; ComponentLink2Description: Datasheet; ComponentLink2URL: http://www.infineon.com/dgdl/TLF1963-Data-Sheet-10-Infineon.pdf?folderId=db3a30431ff988150120802bce1d257a&fileId=db3a30433afc7e3e013b45e177951318&location=en.Products.Automotive_ICs.Linear_Voltage_Regulators_for_Automotive-Applications.Linear_Voltage_Regulators_-_Selection_Table.DATASHEET.TLF1963-Data-Sheet-10-Infineon.pdf; ComponentLink3Description: Package Specification; ComponentLink3URL: http://www.infineon.com/dgdl/TLE7276-Data+Sheet-+v1_11.pdf?folderId=db3a304412b407950112b408e8c90004&fileId=db3a304412b407950112b436c53f66c8&sId=db3a30433db6f09f013dc0e43c0428c1
footprint INF-PG-TO252-5-11_N (DPAK, 5-Leads, Body 6.5x6.12mm, Pitch 1.14mm, IPC Medium Density)
footprint INF-PG-TO252-5-11_L (DPAK, 5-Leads, Body 6.5x6.12mm, Pitch 1.14mm, IPC High Density)
footprint INF-PG-TO252-5-11_M (DPAK, 5-Leads, Body 6.5x6.12mm, Pitch 1.14mm, IPC Low Density)
pins: 1 EN (in) "Enable; A low signal disables the IC. A high signal switches it on. Connect to the input I, if enable functionality is not required.", 2 I (power) "Input voltage; IC supply. For compensating line influences, a capacitor close to the IC pins is recommended.", 3 GND (power) "Ground", 4 Q (power) "Output voltage; Connect a capacitor between Q and GND close to the IC terminals, respecting the values given for its capacitance CQ and ESR given in the table "Functional Range" on Page 8", 5 ADJ (in) "Adjust Input; Connect an external voltage divider from Q to GND to determine the output voltage. By connecting the output pin Q directly to the adjust pin ADJ without resistors an ouput voltage equal to the reference voltage (See Datasheet)"

## TLF2931G V33
designator U?
Low Drop Linear Voltage Regulator, 4.4 to 26 V Supply, 3.3 V Output, -40 to 150 degC, PG-DSO-8-16, Reel, Green; Manufacturer: Infineon; PartNumber: TLF2931G V33; Accuracy: 5 %; Dropout Voltage: 300 mV; Green: TRUE; Max. Output Current: 100 mA; Output Voltage: 3.3V; Regulator Type: single output; Typical Quiescent Current: 400 uA; DatasheetVersion: Rev. 1.0; PackageVersion: Mar-07; PackageReference: PG-DSO-8-16; PackageDescription: 8-Pin Plastic (Green) Dual Small Outline Package, 4.9 x 3.9 mm Body, 1.27 mm Pitch; Halogen-free: TRUE; Operating Range: 4.4 to 26 V; Packing: Reel; Mounting Technology: Surface Mount; ComponentLink1Description: Manufacturer URL; ComponentLink1URL: http://www.infineon.com/; ComponentLink2Description: Datasheet; ComponentLink2URL: http://www.infineon.com/dgdl/TLF2931_DS_10.pdf?folderId=db3a304318f3fe290118f5a433570040&fileId=db3a30432ea425a4012ea49bef0c000e&location=en.Products.Automotive_ICs.Linear_Voltage_Regulators_for_Automotive-Applications.Linear_Voltage_Regulators_-_Selection_Table.DATASHEET.TLF2931_DS_10.pdf; ComponentLink3Description: Package Specification; ComponentLink3URL: http://www.infineon.com/dgdl/TLE7259-2GE_DS_rev12.pdf?folderId=db3a3043163797a6011666d32a0c0de1&fileId=db3a3043163797a6011666d4dbb80de2&location=en.Products.Automotive_ICs.Automotive_Transceivers.LIN_Transceivers.DATASHEET.TLE7259-2GE_DS_rev12.pdf
footprint INF-PG-DSO-8-16_N (SOP, 8-Leads, Body 4.9x3.9mm, Pitch 1.27mm, IPC Medium Density)
footprint INF-PG-DSO-8-16_L (SOP, 8-Leads, Body 4.9x3.9mm, Pitch 1.27mm, IPC High Density)
footprint INF-PG-DSO-8-16_M (SOP, 8-Leads, Body 4.9x3.9mm, Pitch 1.27mm, IPC Low Density)
pins: 1 OUT (power) "Output. Block to GND with a capacitor close to the IC terminals, respecting the values given for its capacitance C OUT and ESR in “Typical Performance Characteristics” on Page 9", 2 GND (power) "Ground", 3 GND (power) "Ground", 4 NC "Not connected", 5 NC "Not connected", 6 GND (power) "Ground", 7 GND (power) "Ground", 8 IN (power) "Input. For compensating line influences, a capacitor to GND close to the IC terminals is recommended"

## TLF2931G V50
designator U?
Low Drop Linear Voltage Regulator, 6 to 28 V Supply, 5 V Output, -40 to 150 degC, PG-DSO-8-16, Reel, Green; Manufacturer: Infineon; PartNumber: TLF2931G V50; Accuracy: 5 %; Dropout Voltage: 300 mV; Green: TRUE; Max. Output Current: 100 mA; Operating Range: 6 to 28 V; Output Voltage: 5V; Regulator Type: single output; Typical Quiescent Current: 400 uA; DatasheetVersion: Rev. 1.0; PackageVersion: Mar-07; PackageReference: PG-DSO-8-16; PackageDescription: 8-Pin Plastic (Green) Dual Small Outline Package, 4.9 x 3.9 mm Body, 1.27 mm Pitch; Halogen-free: TRUE; Packing: Reel; Mounting Technology: Surface Mount; ComponentLink1Description: Manufacturer URL; ComponentLink1URL: http://www.infineon.com/; ComponentLink2Description: Datasheet; ComponentLink2URL: http://www.infineon.com/dgdl/TLF2931_DS_10.pdf?folderId=db3a304318f3fe290118f5a433570040&fileId=db3a30432ea425a4012ea49bef0c000e&location=en.Products.Automotive_ICs.Linear_Voltage_Regulators_for_Automotive-Applications.Linear_Voltage_Regulators_-_Selection_Table.DATASHEET.TLF2931_DS_10.pdf; ComponentLink3Description: Package Specification; ComponentLink3URL: http://www.infineon.com/dgdl/TLE7259-2GE_DS_rev12.pdf?folderId=db3a3043163797a6011666d32a0c0de1&fileId=db3a3043163797a6011666d4dbb80de2&location=en.Products.Automotive_ICs.Automotive_Transceivers.LIN_Transceivers.DATASHEET.TLE7259-2GE_DS_rev12.pdf
footprint INF-PG-DSO-8-16_N (SOP, 8-Leads, Body 4.9x3.9mm, Pitch 1.27mm, IPC Medium Density)
footprint INF-PG-DSO-8-16_L (SOP, 8-Leads, Body 4.9x3.9mm, Pitch 1.27mm, IPC High Density)
footprint INF-PG-DSO-8-16_M (SOP, 8-Leads, Body 4.9x3.9mm, Pitch 1.27mm, IPC Low Density)
pins: 1 OUT (power) "Output. Block to GND with a capacitor close to the IC terminals, respecting the values given for its capacitance C OUT and ESR in “Typical Performance Characteristics” on Page 9", 2 GND (power) "Ground", 3 GND (power) "Ground", 4 NC "Not connected", 5 NC "Not connected", 6 GND (power) "Ground", 7 GND (power) "Ground", 8 IN (power) "Input. For compensating line influences, a capacitor to GND close to the IC terminals is recommended"

## TLF4277-2EL
designator U?
Low Dropout Linear Voltage Regulator Integrated Current Monitor, Adjustable Vout, -40 to 150 degC, PG-SSOP-14, Reel, Green; Manufacturer: Infineon; PartNumber: TLF4277-2EL; Accuracy: 2 %; Dropout Voltage: 200mV; Green: TRUE; Max. Output Current: 300mA; Regulator Type: Linear->Antenna Supply; Reset: FALSE; DatasheetVersion: Rev. 1.0; PackageVersion: Oct-08; PackageReference: PG-SSOP-14; PackageDescription: 14-Pin Plastic (Green) Shrink Small Outline Package, 4.9 x 3.9 mm Body, 0.65 mm Pitch; Halogen-free: TRUE; Output Voltage: Adjustable; Packing: Reel; Status Output: TRUE; Mounting Technology: Surface Mount; ComponentLink1Description: Manufacturer URL; ComponentLink1URL: http://www.infineon.com/; ComponentLink2Description: Datasheet; ComponentLink2URL: http://www.infineon.com/dgdl/TLF4277-2-DS-10-Infineon.pdf?folderId=db3a30431ff988150120802bce1d257a&fileId=db3a304344e406b50144f316d4182c1f; ComponentLink3Description: Package Specification; ComponentLink3URL: http://www.infineon.com/dgdl/PG-SSOP-14-1%2C-2%2C-3%2C-5-Package_Overview.pdf?folderId=db3a304327b897500127f79f69566553&fileId=db3a3043422231a901422ce38a900db8
footprint INF-PG-SSOP-14_N (SOP, 14-Leads, Body 4.9x3.9mm, Pitch 0.65mm, Thermal Pad 3.2x2.75mm, IPC Medium Density)
footprint INF-PG-SSOP-14_L (SOP, 14-Leads, Body 4.9x3.9mm, Pitch 0.65mm, Thermal Pad 3.2x2.85mm, IPC High Density)
footprint INF-PG-SSOP-14_M (SOP, 14-Leads, Body 4.9x3.9mm, Pitch 0.65mm, Thermal Pad 3.2x2.55mm, IPC Low Density)
part A pins: 1 I (power) "IC Supply, Place a capacitor from I to GND close to the IC for compensating line influences.", 4 EN (in) "Enable, High signal enables the regulator; Low signal disables the regulator; Connect to I, if the Enable function is not needed", 7 CSO (out) "Current Sense Out, Current monitor and status output", 8 ST (oc) "Status Output, Digital output signal with open collector output.A low signal indicates fault conditions at the regulator‘s output.", 10 GND (power) "Ground", 12 ADJ (in) "Voltage Adjust,Connect an external voltage divider to configure the output voltage", 14 Q (power) "Regulator Output, Connect a capacitor between Q and GND close to the IC pins, respecting the values given for its capacitance CQ and ESR in the table", 15 EP (power) "Heat sink, Connect to PCB heat sink area and GND"
part B pins: 2 NC "Not Connected, Internally not connected; Connect to PCB GND", 3 NC "Not Connected, Internally not connected; Connect to PCB GND", 5 NC "Not Connected, Internally not connected; Connect to PCB GND", 6 NC "Not Connected, Internally not connected; Connect to PCB GND", 9 NC "Not Connected, Internally not connected; Connect to PCB GND", 11 NC "Not Connected, Internally not connected; Connect to PCB GND", 13 NC "Not Connected, Internally not connected; Connect to PCB GND"